# EAGLE library part TL082 (library BME_Components)
JFET-Input Operational Amplifier, 7 to 36 V, 0 to 70 degC, 8-pin DIP (P8), Pb-Free (RoHS)
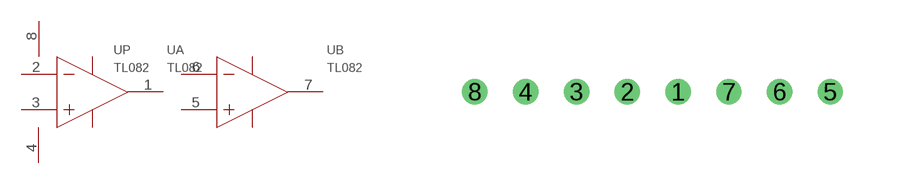
[diagram p18: symbol with the pads of TL082_PDIP-8; footprint TL082_PDIP-8]

Designator prefix U; gates P=TL082_P A=TL082_A B=TL082_B

## TL082TL082_TL082_PDIP-8 (CMRR(MIN)(DB): 70; CODE_JEDEC: MS-001; COMPONENTLINK1DESCRIPTION: Manufacturer URL; COMPONENTLINK1URL: http://www.ti.com/; COMPONENTLINK2DESCRIPTION: Datasheet; COMPONENTLINK2URL: http://www.ti.com/lit/ds/symlink/tl082.pdf; COMPONENTLINK3DESCRIPTION: Package Specification; COMPONENTLINK3URL: http://www.ti.com/litv/pdf/mpdi001b; DATASHEETVERSION: SLOS081G; ECO-PLAN: Pb-Free (RoHS); GBW(TYP)(MHZ): 3; IIB(MAX)(PA): 400; IQ_PER_CHANNEL(MAX)(MA): 2.8; MANUFACTURER: Texas Instruments; MOUNTING_TECHNOLOGY: Through Hole; NUMBER_OF_CHANNELS: 2; OFFSET_DRIFT(TYP)(UV/C): 18; PACKAGEDESCRIPTION: 8-Pin Plastic In-Line, Body 9.59 x 6.35 mm, Pitch 2.54 mm; PACKAGEREFERENCE: P0008A; PACKAGEVERSION: 4040082/E, 04/2010; PARTID: 1; PARTNUMBER: TL082CP; RATING: Catalog; SLEW_RATE(TYP)(V/US): 13; TOTAL_SUPPLY_VOLTAGE(MAX)(+5V_IS_5,_+/-5V_IS_10): 36; TOTAL_SUPPLY_VOLTAGE(MIN)(+5V_IS_5,_+/-5V_IS_10): 7; VIO_(25C)(MAX)(MV): 15; VN_AT_1KHZ(TYP)(NV/RTHZ): 18)  [TL082_PDIP-8]
1  A:OUT1  out
2  A:IN1-  in
3  A:IN1+  in
4  P:VCC-  pwr
5  B:IN2+  in
6  B:IN2-  in
7  B:OUT2  out
8  P:VCC+  pwr

## Footprint TL082_PDIP-8 (pad centres in mm)
drill 0.127 pad 0.254 round: 1 5.08,0; 2 3.81,0; 3 2.54,0; 4 1.27,0; 5 8.89,0; 6 7.62,0; 7 6.35,0; 8 0,0